# EAGLE library part G6K (library df4iah_relay)
Low Signal Relay oeiwcsnts1.omron.com/.. D20G6K0100.pdf
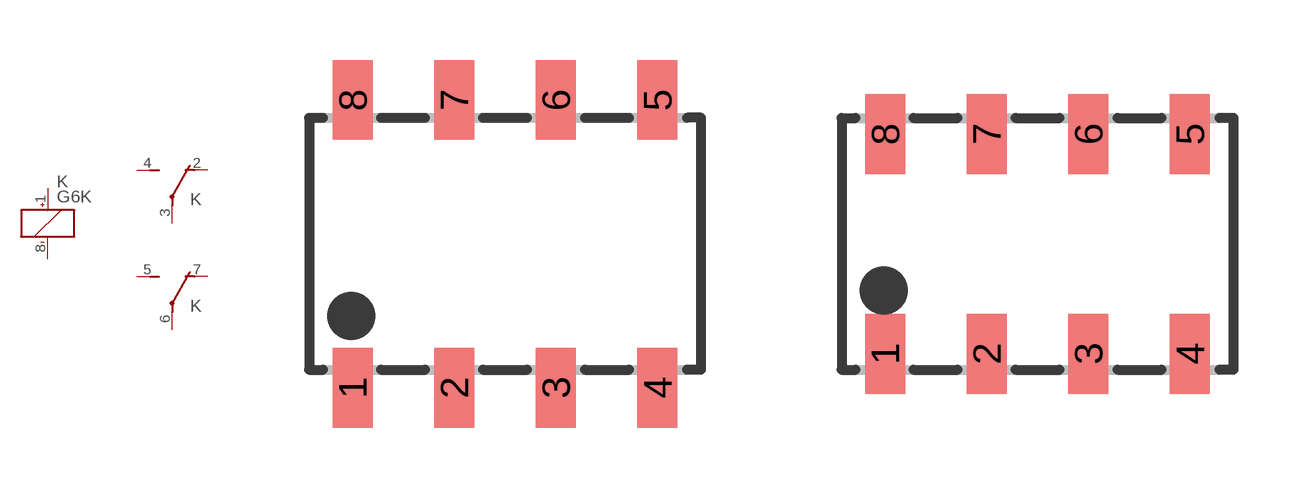
[diagram p34: symbol with the pads of G6K-2F; footprints G6K-2F, G6K-2G]

Designator prefix K; gates 1=K+- 2=U 3=U

## G6K-2F (MF: OMRON COMPONENTS USA; MPN: G6K-2F DC24; OC_FARNELL: 1690427; OC_NEWARK: 36K7467)  [G6K-2F]
1  1:+  pas
2  2:O  pas
3  2:P  pas
4  2:S  pas
5  3:S  pas
6  3:P  pas
7  3:O  pas
8  1:-  pas

## G6K-2G (MF: OMRON COMPONENTS USA; MPN: G6K-2G DC12; OC_FARNELL: 4601695; OC_NEWARK: 93B9118)  [G6K-2G]
Pads as for G6K-2F

## G6K-2P (MF: OMRON COMPONENTS USA; MPN: G6K-2P DC3; OC_FARNELL: 3937276; OC_NEWARK: 89C6482)  [G6K-2P]
Pads as for G6K-2F

## G6K-2F-Y (MF: OMRON COMPONENTS USA; MPN: G6K-2F-Y DC3; OC_FARNELL: 1690316; OC_NEWARK: 89C6451)  [G6K-2F-Y]
Pads as for G6K-2F

## G6K-2G-Y (OC_FARNELL: 4484794; OC_NEWARK: unknown)  [G6K-2G-Y]
Pads as for G6K-2F

## G6K-2P-Y (MF: OMRON COMPONENTS USA; MPN: G6K-2P-Y DC12; OC_FARNELL: 3937276; OC_NEWARK: 34C3464)  [G6K-2P-Y]
Pads as for G6K-2F

## G6KU-2F-Y (MF: OMRON COMPONENTS USA; MPN: G6KU-2F-Y DC3; OC_FARNELL: unknown; OC_NEWARK: 89C6496)  [G6KU-2F-Y]
Pads as for G6K-2F

## G6KU-2G-Y (MF: OMRON COMPONENTS USA; MPN: G6KU-2G-Y DC5; OC_FARNELL: 1690320; OC_NEWARK: 89C6505)  [G6KU-2G-Y]
Pads as for G6K-2F

## G6KU-2P-Y (MF: OMRON COMPONENTS USA; MPN: G6KU-2P-Y DC5; OC_FARNELL: unknown; OC_NEWARK: 35K4536)  [G6KU-2P-Y]
Pads as for G6K-2F

## Footprint G6K-2F (pad centres in mm)
Low Signal Relay oeiwcsnts1.omron.com/.. D20G6K0100.pdf
smd 1 x 2: 1 -3.81,-3.6; 2 -1.27,-3.6; 3 1.27,-3.6; 4 3.81,-3.6; 5 3.81,3.6; 6 1.27,3.6; 7 -1.27,3.6; 8 -3.81,3.6

## Footprint G6K-2G (pad centres in mm)
Low Signal Relay oeiwcsnts1.omron.com/.. D20G6K0100.pdf
smd 1 x 2: 1 -3.81,-2.75; 2 -1.27,-2.75; 3 1.27,-2.75; 4 3.81,-2.75; 5 3.81,2.75; 6 1.27,2.75; 7 -1.27,2.75; 8 -3.81,2.75

## Footprint G6K-2P (pad centres in mm)
Low Signal Relay oeiwcsnts1.omron.com/.. D20G6K0100.pdf
drill 0.8 octagon: 1 -2.54,-2.54; 2 0,-2.54; 3 2.54,-2.54; 4 5.08,-2.54; 5 5.08,2.54; 6 2.54,2.54; 7 0,2.54; 8 -2.54,2.54

## Footprint G6K-2F-Y (pad centres in mm)
Low Signal Relay oeiwcsnts1.omron.com/.. D20G6K0100.pdf
smd 1.2 x 1.8: 1 -3.8,-3.5; 2 -0.6,-3.5; 3 1.6,-3.5; 4 3.8,-3.5; 5 3.8,3.5; 6 1.6,3.5; 7 -0.6,3.5; 8 -3.8,3.5

## Footprint G6K-2G-Y (pad centres in mm)
Low Signal Relay oeiwcsnts1.omron.com/.. D20G6K0100.pdf
smd 1.2 x 1.8: 1 -3.8,-2.85; 2 -0.6,-2.85; 3 1.6,-2.85; 4 3.8,-2.85; 5 3.8,2.85; 6 1.6,2.85; 7 -0.6,2.85; 8 -3.8,2.85

## Footprint G6K-2P-Y (pad centres in mm)
Low Signal Relay oeiwcsnts1.omron.com/.. D20G6K0100.pdf
drill 0.85 octagon: 1 0,-2.54; 2 3.2,-2.54; 3 5.4,-2.54; 4 7.6,-2.54; 5 7.6,2.54; 6 5.4,2.54; 7 3.2,2.54; 8 0,2.54

## Footprint G6KU-2F-Y (pad centres in mm)
Low Signal Relay oeiwcsnts1.omron.com/.. D20G6K0100.pdf
smd 1.2 x 1.8: 1 -3.8,-3.5; 2 -0.6,-3.5; 3 1.6,-3.5; 4 3.8,-3.5; 5 3.8,3.5; 6 1.6,3.5; 7 -0.6,3.5; 8 -3.8,3.5

## Footprint G6KU-2G-Y (pad centres in mm)
Low Signal Relay oeiwcsnts1.omron.com/.. D20G6K0100.pdf
smd 1.2 x 1.8: 1 -3.8,-2.85; 2 -0.6,-2.85; 3 1.6,-2.85; 4 3.8,-2.85; 5 3.8,2.85; 6 1.6,2.85; 7 -0.6,2.85; 8 -3.8,2.85

## Footprint G6KU-2P-Y (pad centres in mm)
Low Signal Relay oeiwcsnts1.omron.com/.. D20G6K0100.pdf
drill 0.85 octagon: 1 -3.8,-2.54; 2 -0.6,-2.54; 3 1.6,-2.54; 4 3.8,-2.54; 5 3.8,2.54; 6 1.6,2.54; 7 -0.6,2.54; 8 -3.8,2.54